# Altium schematic symbol library Memory.SchLib: 1 symbol
Pins are listed as number, name and electrical type; pins without a type are passive.

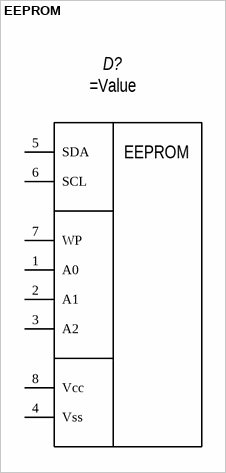
[diagram p0: symbol EEPROM]

## EEPROM
designator D?  (value not drawn)
HelpURL: *; Manufacturer: *; Value: =Value
footprint DIP8 (DIP8, 8 pins, Pitch 2.54mm)
footprint SOIC8 (SOIC8, 8 pins, Pitch 1.27mm)
pins: 1 A0, 2 A1, 3 A2, 4 Vss (power), 5 SDA, 6 SCL, 7 WP, 8 Vcc (power)